# EAGLE library part HD-A342RD (library LED displeje)
LED displej 10 mm
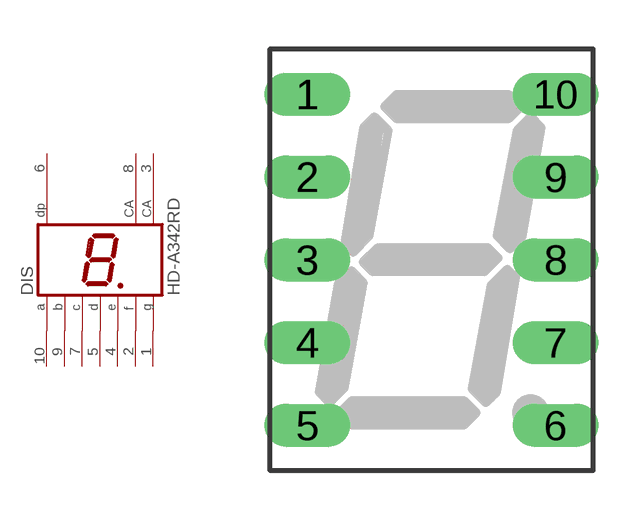
[diagram p12: symbol with the pads of HDSP; footprint HDSP]

Designator prefix DIS

## HD-A342RD  [HDSP]
1  G  pas
2  F  pas
3  CA  pas
4  E  pas
5  D  pas
6  DP  pas
7  C  pas
8  CA  pas
9  B  pas
10  A  pas

## Footprint HDSP (pad centres in mm)
LED DISPLAY 10-mm 1 character 7 segment, decimal point right
drill 0.813 long: 1 -3.81,5.08; 2 -3.81,2.54; 3 -3.81,0; 4 -3.81,-2.54; 5 -3.81,-5.08; 6 3.81,-5.08; 7 3.81,-2.54; 8 3.81,0; 9 3.81,2.54; 10 3.81,5.08